# Altium schematic symbol library Securifi_Schlib1.SchLib: 4 symbols
Pins are listed as number, name and electrical type; pins without a type are passive.

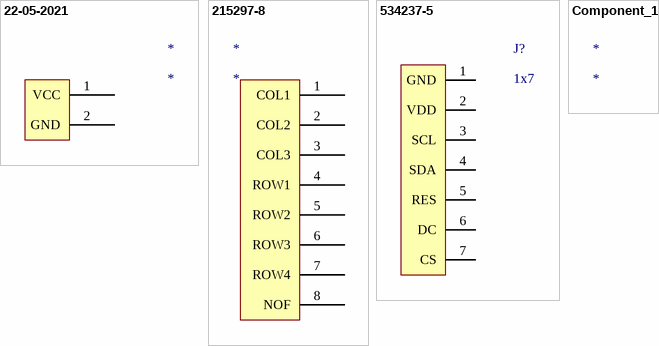
[diagram p0: symbols 22-05-2021 to Component_1]

## 22-05-2021
designator *
2 pin header; Manufacturer: Molex; Gender: Male; Connector Type: Male Pin; Number of Positions: 2; Contact Resistance: 10mR; Pitch: 2.54mm; Supplier 1: Digi-Key; Manufacturer Part Number: 22-05-2021; RoHS: Yes; Category: Headers and Wire Housings; Stock 1: 8243; Pricing 1: 1=0,32000, 10=0,30500, 100=0,21320, 500=0,18270, 1000=0,15225, 5000=0,13050, 10000=0,12180 (USD); Mount: Through Hole; Color: White; Contact Material: Brass; Contact Plating: Tin,Copper; Housing Material: Nylon; Housing Color: White; Min Operating Temperature: 0°C; Max Operating Temperature: 75°C; Termination: Solder; Package Quantity: 1; Number of Contacts: 2; Number of Rows: 1; Packaging: Bulk; Orientation: Right Angle; Length: 4.83mm; Depth: 9.89mm; Contact Mating Length: 0.369inch; ComponentLink1URL: https://datasheet.ciiva.com/36179/64080022052021-pcb-headers-36179589.pdf?src-supplier=Onlinecomponents.com; ComponentLink1Description: https://datasheet.ciiva.com/36179/64080022052021-pcb-headers-36179589.pdf?src-supplier=Onlinecomponents.com; ComponentLink2URL: https://datasheet.ciiva.com/23692/7386-23692546.pdf?src-supplier=Newark; ComponentLink2Description: https://datasheet.ciiva.com/23692/7386-23692546.pdf?src-supplier=Newark; ComponentLink3URL: https://datasheet.ciiva.com/11748/0900766b80027334-11748191.pdf?src-supplier=RSComponents; ComponentLink3Description: https://datasheet.ciiva.com/11748/0900766b80027334-11748191.pdf?src-supplier=RSComponents; ComponentLink4URL: https://datasheet.ciiva.com/15217/getdatasheetpartid-176616-15217558.pdf?src-supplier=Verical; ComponentLink4Description: https://datasheet.ciiva.com/15217/getdatasheetpartid-176616-15217558.pdf?src-supplier=Verical; Supplier Part Number 1: WM4100-ND
footprint DIP2
pins: 1 VCC, 2 GND

## 215297-8
designator *
8 pin female keypad; Manufacturer: TE Connectivity; Manufacturer Part Number: 215297-8; Description: AMPMODU HV100 Series 2.54mm 8 Way 1 RowStraight PCB Socket Strip; PCB Mount Retention: With; PCB Mounting Orientation: Vertical; Sealable: No (Without); Stackable: Yes; Number of Positions: 8; Connector Type: Receptacle,Connector,Socket; Gender: Receptacle; Contact Resistance: 12mR; Current Rating: 3A; PCB Thickness: 1.6mm; Tail Length: 3.1mm; Pitch: 2.54mm; Supplier 1: Digi-Key; RoHS: Yes; Category: Headers and Wire Housings; Stock 1: 17481; Pricing 1: 1=1,97000, 10=1,78900, 100=1,53300, 500=1,27750, 1000=1,09500, 5000=0,97090, 10000=0,94900 (USD); Mount: Through Hole; Contact Shape: Square; Insulation Color: Green; Insulation Material: Glass; Housing Color: Black; Contact Plating: Gold,Tin; Contact Material: Bronze; Housing Material: Polyester; Color: Green; Min Operating Temperature: -55°C; Max Operating Temperature: 105°C; Fastening Type: Push,Pull; Orientation: Straight; Termination: Solder; Number of Contacts: 8; Contact Gender: Female; Number of Rows: 1; Packaging: Tray; Package Quantity: 88; Contact Current Rating: 3A; Length: 20.32mm; Height: 7mm; Contact Post Length: 3.1mm; Depth: 2.52mm; Radiation Hardening: No; REACH SVHC: Unknown; ELV: Compliant; Flammability Rating: UL94 V-0; ComponentLink1URL: https://datasheet.ciiva.com/30062/2152978-30062389.pdf?src-supplier=Onlinecomponents.com; ComponentLink1Description: https://datasheet.ciiva.com/30062/2152978-30062389.pdf?src-supplier=Onlinecomponents.com; ComponentLink2URL: https://datasheet.ciiva.com/11747/0900766b805762f6-11747560.pdf?src-supplier=RSComponents; ComponentLink2Description: https://datasheet.ciiva.com/11747/0900766b805762f6-11747560.pdf?src-supplier=RSComponents; ComponentLink3URL: https://datasheet.ciiva.com/29369/001094895-da-01-en-buchsenleiste-1-reihig-0-0215297-8-29369956.pdf?src-supplier=Conrad; ComponentLink3Description: https://datasheet.ciiva.com/29369/001094895-da-01-en-buchsenleiste-1-reihig-0-0215297-8-29369956.pdf?src-supplier=Conrad; ComponentLink4URL: https://datasheet.ciiva.com/6857/eng-cd-215297-d-basefilename-6857496.pdf?src-supplier=Digi-Key; ComponentLink4Description: https://datasheet.ciiva.com/6857/eng-cd-215297-d-basefilename-6857496.pdf?src-supplier=Digi-Key; Supplier Part Number 1: A106654-ND
footprint DIP8
pins: 1 COL1, 2 COL2, 3 COL3, 4 ROW1, 5 ROW2, 6 ROW3, 7 ROW4, 8 NOF

## 534237-5
designator J?, comment 1x7
7 pin header voor schermpje; Manufacturer: TE Connectivity; Manufacturer Part Number: 534237-5; Number of Positions: 7; Connector Type: Receptacle,Connector,Socket; Gender: Female; PCB Mount Retention: Without; PCB Mounting Orientation: Vertical; Contact Current Rating: 2A; Insulation Resistance: 5GR; High Temperature Compatible: No; Voltage Rating: 750V; Contact Resistance: 12MR; Boss: No (Without); Stackable: Yes; Pitch: 2.54mm; PCB Thickness: 2.4mm; Row Spacing: 0.1inch; Contact Post Length: 2.92mm; Approvals: CSA; Supplier 1: Digi-Key; RoHS: Yes; Category: Headers and Wire Housings; Stock 1: 4174; Pricing 1: 1=1,62000, 10=1,47000, 100=1,26000, 500=1,05000, 1000=0,90000, 5000=0,79800, 10000=0,78000 (USD); Mount: Through Hole; Contact Plating: Gold,Tin,Lead; Color: Black; Contact Material: Bronze; Housing Color: Black; Housing Material: Polyester; Contact Shape: Square; Min Operating Temperature: -65°C; Max Operating Temperature: 105°C; Package Quantity: 32; Number of Rows: 1; Packaging: Rail/Tube; Termination: Solder; Number of Contacts: 7; Orientation: Straight; Current Rating: 2A; Sealable: No (Without); Length: 17.78mm; Height: 3.56mm; Depth: 3.56mm; Tail Length: 2.92mm; Radiation Hardening: No; Lead Free: Contains Lead; Flammability Rating: UL94 V-0; ELV: Non-Compliant; ComponentLink1URL: https://datasheet.ciiva.com/3118/eng-ds-1307819-ampmodu-0811-3118408.pdf?src-supplier=Avnet; ComponentLink1Description: https://datasheet.ciiva.com/3118/eng-ds-1307819-ampmodu-0811-3118408.pdf?src-supplier=Avnet; ComponentLink2URL: https://datasheet.ciiva.com/743/eng-cd-534237-r5-743694.pdf?src-supplier=Digi-Key; ComponentLink2Description: https://datasheet.ciiva.com/743/eng-cd-534237-r5-743694.pdf?src-supplier=Digi-Key; Supplier Part Number 1: A26419-ND; Catogory: *
footprint DIP7
pins: 1 GND, 2 VDD, 3 SCL, 4 SDA, 5 RES, 6 DC, 7 CS

## Component_1
designator *